# Altium integrated library Microchip PIC16 Part 1.IntLib: 1800 symbols (part 55 of 93)
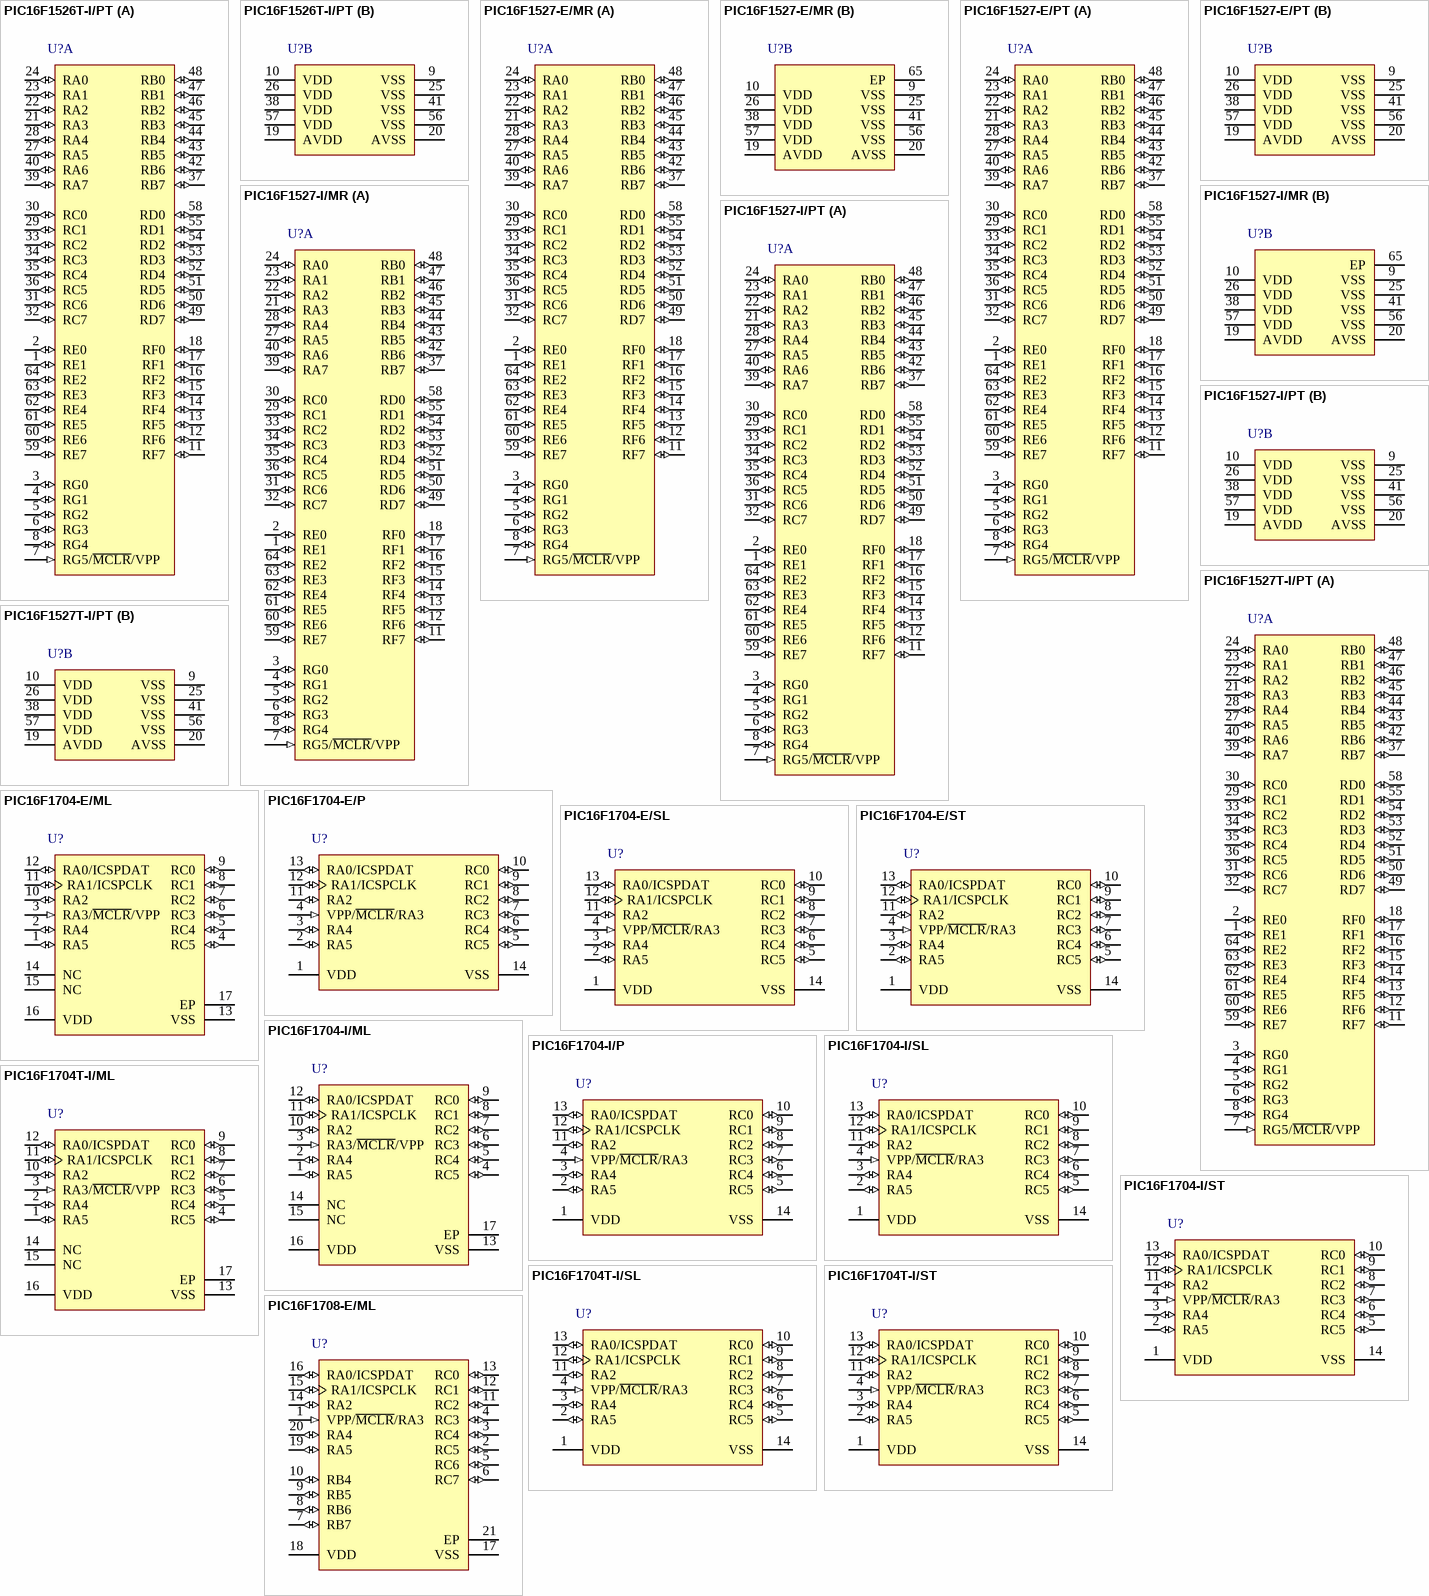
[diagram p153: symbols PIC16F1526T-I/PT to PIC16F1708-E/ML]

## PIC16F1704-I/ST
designator U?
8-Bit Advanced Analog Flash Microcontrollers, 4K (x14-Bit words) Program Memory, 512 Bytes SRAM, 12 I/O, Industrial Temperature, 14-Pin TSSOP (ST14), Tube; Manufacturer: Microchip; PartNumber: PIC16F1704-I/ST; VCC Range: 2.3 to 5.5 V; DatasheetVersion: Rev. B; PackageVersion: C04-087C, 12/2012; PackageReference: TSSOP-ST14; PackageDescription: 14-Lead Plastic Thin Shrink Small Outline, 5 x 4.4 mm Body, 0.65 mm Pitch; Supplier 1: Digi-Key; Supplier Part Number 1: PIC16F1704-I/ST-ND; Supplier 2: Newark; Supplier Part Number 2: 89W9317; Supplier 3: Mouser; Supplier Part Number 3: 579-PIC16F1704-I/ST; Packing: Tube; Mounting Technology: Surface Mount; ComponentLink1Description: Manufacturer URL; ComponentLink1URL: http://www.microchip.com/; ComponentLink2Description: Datasheet; ComponentLink2URL: http://ww1.microchip.com/downloads/en/DeviceDoc/40001715B.pdf; ComponentLink3Description: Package Specification; ComponentLink3URL: http://www.microchip.com/stellent/groups/techpub_sg/documents/packagingspec/en012702.pdf
footprint MCHP-TSSOP-ST14_N (SOP, 14-Leads, Body 5x4.4mm, Pitch 0.65mm, IPC Medium Density)
footprint MCHP-TSSOP-ST14_L (SOP, 14-Leads, Body 5x4.4mm, Pitch 0.65mm, IPC High Density)
footprint MCHP-TSSOP-ST14_M (SOP, 14-Leads, Body 5x4.4mm, Pitch 0.65mm, IPC Low Density)
pins: 1 VDD (power) "Positive supply.", 2 RA5 (io), 3 RA4 (io), 4 VPP/~{MCLR}/RA3 (in), 5 RC5 (io), 6 RC4 (io), 7 RC3 (io), 8 RC2 (io), 9 RC1 (io), 10 RC0 (io), 11 RA2 (io), 12 RA1/ICSPCLK (io), 13 RA0/ICSPDAT (io), 14 VSS (power) "Ground reference."

## PIC16F1704T-I/ML
designator U?
8-Bit Advanced Analog Flash Microcontrollers, 4K (x14-Bit words) Program Memory, 512 Bytes SRAM, 12 I/O, Industrial Temperature, 16-Pin QFN (ML16), Tape and Reel; Manufacturer: Microchip; PartNumber: PIC16F1704T-I/ML; VCC Range: 2.3 to 5.5 V; DatasheetVersion: Rev. B; PackageVersion: C04-127B, 04/2013; PackageReference: QFN-ML16; PackageDescription: 16-Lead Plastic Quad Flat No Lead Package, Body 4 x 4 mm, Pitch 0.65 mm; Supplier 1: Digi-Key; Supplier Part Number 1: PIC16F1704T-I/ML-ND; Supplier 2: Newark; Supplier Part Number 2: 89W9318; Supplier 3: Mouser; Supplier Part Number 3: 579-PIC16F1704T-I/ML; Packing: Tape and Reel; Mounting Technology: Surface Mount; ComponentLink1Description: Manufacturer URL; ComponentLink1URL: http://www.microchip.com/; ComponentLink2Description: Datasheet; ComponentLink2URL: http://ww1.microchip.com/downloads/en/DeviceDoc/40001715B.pdf; ComponentLink3Description: Package Specification; ComponentLink3URL: http://www.microchip.com/stellent/groups/techpub_sg/documents/packagingspec/en012702.pdf
footprint MCHP-QFN-ML16_N (QFN, 16-Leads, Body 4x4mm, Pitch 0.65mm, Thermal Pad 2.65x2.65mm, IPC Medium Density)
footprint MCHP-QFN-ML16_L (QFN, 16-Leads, Body 4x4mm, Pitch 0.65mm, Thermal Pad 2.65x2.65mm, IPC High Density)
footprint MCHP-QFN-ML16_M (QFN, 16-Leads, Body 4x4mm, Pitch 0.65mm, Thermal Pad 2.65x2.65mm, IPC Low Density)
pins: 1 RA5 (io), 2 RA4 (io), 3 RA3/~{MCLR}/VPP (in), 4 RC5 (io), 5 RC4 (io), 6 RC3 (io), 7 RC2 (io), 8 RC1 (io), 9 RC0 (io), 10 RA2 (io), 11 RA1/ICSPCLK (io), 12 RA0/ICSPDAT (io), 13 VSS (power) "Ground reference.", 14 NC, 15 NC, 16 VDD (power) "Positive supply.", 17 EP

## PIC16F1704T-I/SL
designator U?
8-Bit Advanced Analog Flash Microcontrollers, 4K (x14-Bit words) Program Memory, 512 Bytes SRAM, 12 I/O, Industrial Temperature, 14-Pin SOIC (SL14), Tape and Reel; Manufacturer: Microchip; PartNumber: PIC16F1704T-I/SL; VCC Range: 2.3 to 5.5 V; DatasheetVersion: Rev. B; PackageVersion: C04-065C, 12/2012; PackageReference: SOIC-SL14; PackageDescription: 14-Lead Plastic Small Outline, 8.65 x 3.9 mm Body, 1.27 mm Pitch; Supplier 1: Digi-Key; Supplier Part Number 1: PIC16F1704T-I/SL-ND; Supplier 2: Newark; Supplier Part Number 2: 89W9319; Supplier 3: Mouser; Supplier Part Number 3: 579-PIC16F1704T-I/SL; Packing: Tape and Reel; Mounting Technology: Surface Mount; ComponentLink1Description: Manufacturer URL; ComponentLink1URL: http://www.microchip.com/; ComponentLink2Description: Datasheet; ComponentLink2URL: http://ww1.microchip.com/downloads/en/DeviceDoc/40001715B.pdf; ComponentLink3Description: Package Specification; ComponentLink3URL: http://www.microchip.com/stellent/groups/techpub_sg/documents/packagingspec/en012702.pdf
footprint MCHP-SOIC-SL14_N (SOIC, 14-Leads, Body 8.65x3.9mm, Pitch 1.27mm, IPC Medium Density)
footprint MCHP-SOIC-SL14_L (SOIC, 14-Leads, Body 8.65x3.9mm, Pitch 1.27mm, IPC High Density)
footprint MCHP-SOIC-SL14_M (SOIC, 14-Leads, Body 8.65x3.9mm, Pitch 1.27mm, IPC Low Density)
pins: 1 VDD (power) "Positive supply.", 2 RA5 (io), 3 RA4 (io), 4 VPP/~{MCLR}/RA3 (in), 5 RC5 (io), 6 RC4 (io), 7 RC3 (io), 8 RC2 (io), 9 RC1 (io), 10 RC0 (io), 11 RA2 (io), 12 RA1/ICSPCLK (io), 13 RA0/ICSPDAT (io), 14 VSS (power) "Ground reference."

## PIC16F1704T-I/ST
designator U?
8-Bit Advanced Analog Flash Microcontrollers, 4K (x14-Bit words) Program Memory, 512 Bytes SRAM, 12 I/O, Industrial Temperature, 14-Pin TSSOP (ST14), Tape and Reel; Manufacturer: Microchip; PartNumber: PIC16F1704T-I/ST; VCC Range: 2.3 to 5.5 V; DatasheetVersion: Rev. B; PackageVersion: C04-087C, 12/2012; PackageReference: TSSOP-ST14; PackageDescription: 14-Lead Plastic Thin Shrink Small Outline, 5 x 4.4 mm Body, 0.65 mm Pitch; Supplier 1: Digi-Key; Supplier Part Number 1: PIC16F1704T-I/ST-ND; Supplier 2: Newark; Supplier Part Number 2: 89W9320; Supplier 3: Mouser; Supplier Part Number 3: 579-PIC16F1704T-I/ST; Packing: Tape and Reel; Mounting Technology: Surface Mount; ComponentLink1Description: Manufacturer URL; ComponentLink1URL: http://www.microchip.com/; ComponentLink2Description: Datasheet; ComponentLink2URL: http://ww1.microchip.com/downloads/en/DeviceDoc/40001715B.pdf; ComponentLink3Description: Package Specification; ComponentLink3URL: http://www.microchip.com/stellent/groups/techpub_sg/documents/packagingspec/en012702.pdf
footprint MCHP-TSSOP-ST14_N (SOP, 14-Leads, Body 5x4.4mm, Pitch 0.65mm, IPC Medium Density)
footprint MCHP-TSSOP-ST14_L (SOP, 14-Leads, Body 5x4.4mm, Pitch 0.65mm, IPC High Density)
footprint MCHP-TSSOP-ST14_M (SOP, 14-Leads, Body 5x4.4mm, Pitch 0.65mm, IPC Low Density)
pins: 1 VDD (power) "Positive supply.", 2 RA5 (io), 3 RA4 (io), 4 VPP/~{MCLR}/RA3 (in), 5 RC5 (io), 6 RC4 (io), 7 RC3 (io), 8 RC2 (io), 9 RC1 (io), 10 RC0 (io), 11 RA2 (io), 12 RA1/ICSPCLK (io), 13 RA0/ICSPDAT (io), 14 VSS (power) "Ground reference."

## PIC16F1708-E/ML
designator U?
8-Bit Advanced Analog Flash Microcontrollers, 4K (x14-Bit words) Program Memory, 512 Bytes SRAM, 18 I/O, Extended Temperature, 20-Pin QFN (ML20), Tube; Manufacturer: Microchip; PartNumber: PIC16F1708-E/ML; VCC Range: 2.3 to 5.5 V; DatasheetVersion: Rev. B; PackageVersion: C04-126B, 12/2012; PackageReference: QFN-ML20; PackageDescription: 20-Lead Plastic Quad Flat, No Lead Package, 4 x 4 mm Body, 0.5 mm Pitch; Supplier 1: Digi-Key; Supplier Part Number 1: PIC16F1708-E/ML-ND; Supplier 2: Newark; Supplier Part Number 2: 89W9321; Supplier 3: Mouser; Supplier Part Number 3: 579-PIC16F1708-E/ML; Packing: Tube; Mounting Technology: Surface Mount; ComponentLink1Description: Manufacturer URL; ComponentLink1URL: http://www.microchip.com/; ComponentLink2Description: Datasheet; ComponentLink2URL: http://ww1.microchip.com/downloads/en/DeviceDoc/40001715B.pdf; ComponentLink3Description: Package Specification; ComponentLink3URL: http://www.microchip.com/stellent/groups/techpub_sg/documents/packagingspec/en012702.pdf
footprint MCHP-QFN-ML20_N (QFN, 20-Leads, Body 4x4mm, Pitch 0.5mm, Thermal Pad 2.7x2.7mm, IPC Medium Density)
footprint MCHP-QFN-ML20_L (QFN, 20-Leads, Body 4x4mm, Pitch 0.5mm, Thermal Pad 2.7x2.7mm, IPC High Density)
footprint MCHP-QFN-ML20_M (QFN, 20-Leads, Body 4x4mm, Pitch 0.5mm, Thermal Pad 2.7x2.7mm, IPC Low Density)
pins: 1 VPP/~{MCLR}/RA3 (in), 2 RC5 (io), 3 RC4 (io), 4 RC3 (io), 5 RC6 (io), 6 RC7 (io), 7 RB7 (io), 8 RB6 (io), 9 RB5 (io), 10 RB4 (io), 11 RC2 (io), 12 RC1 (io), 13 RC0 (io), 14 RA2 (io), 15 RA1/ICSPCLK (io), 16 RA0/ICSPDAT (io), 17 VSS (power) "Ground reference.", 18 VDD (power) "Positive supply.", 19 RA5 (io), 20 RA4 (io), 21 EP

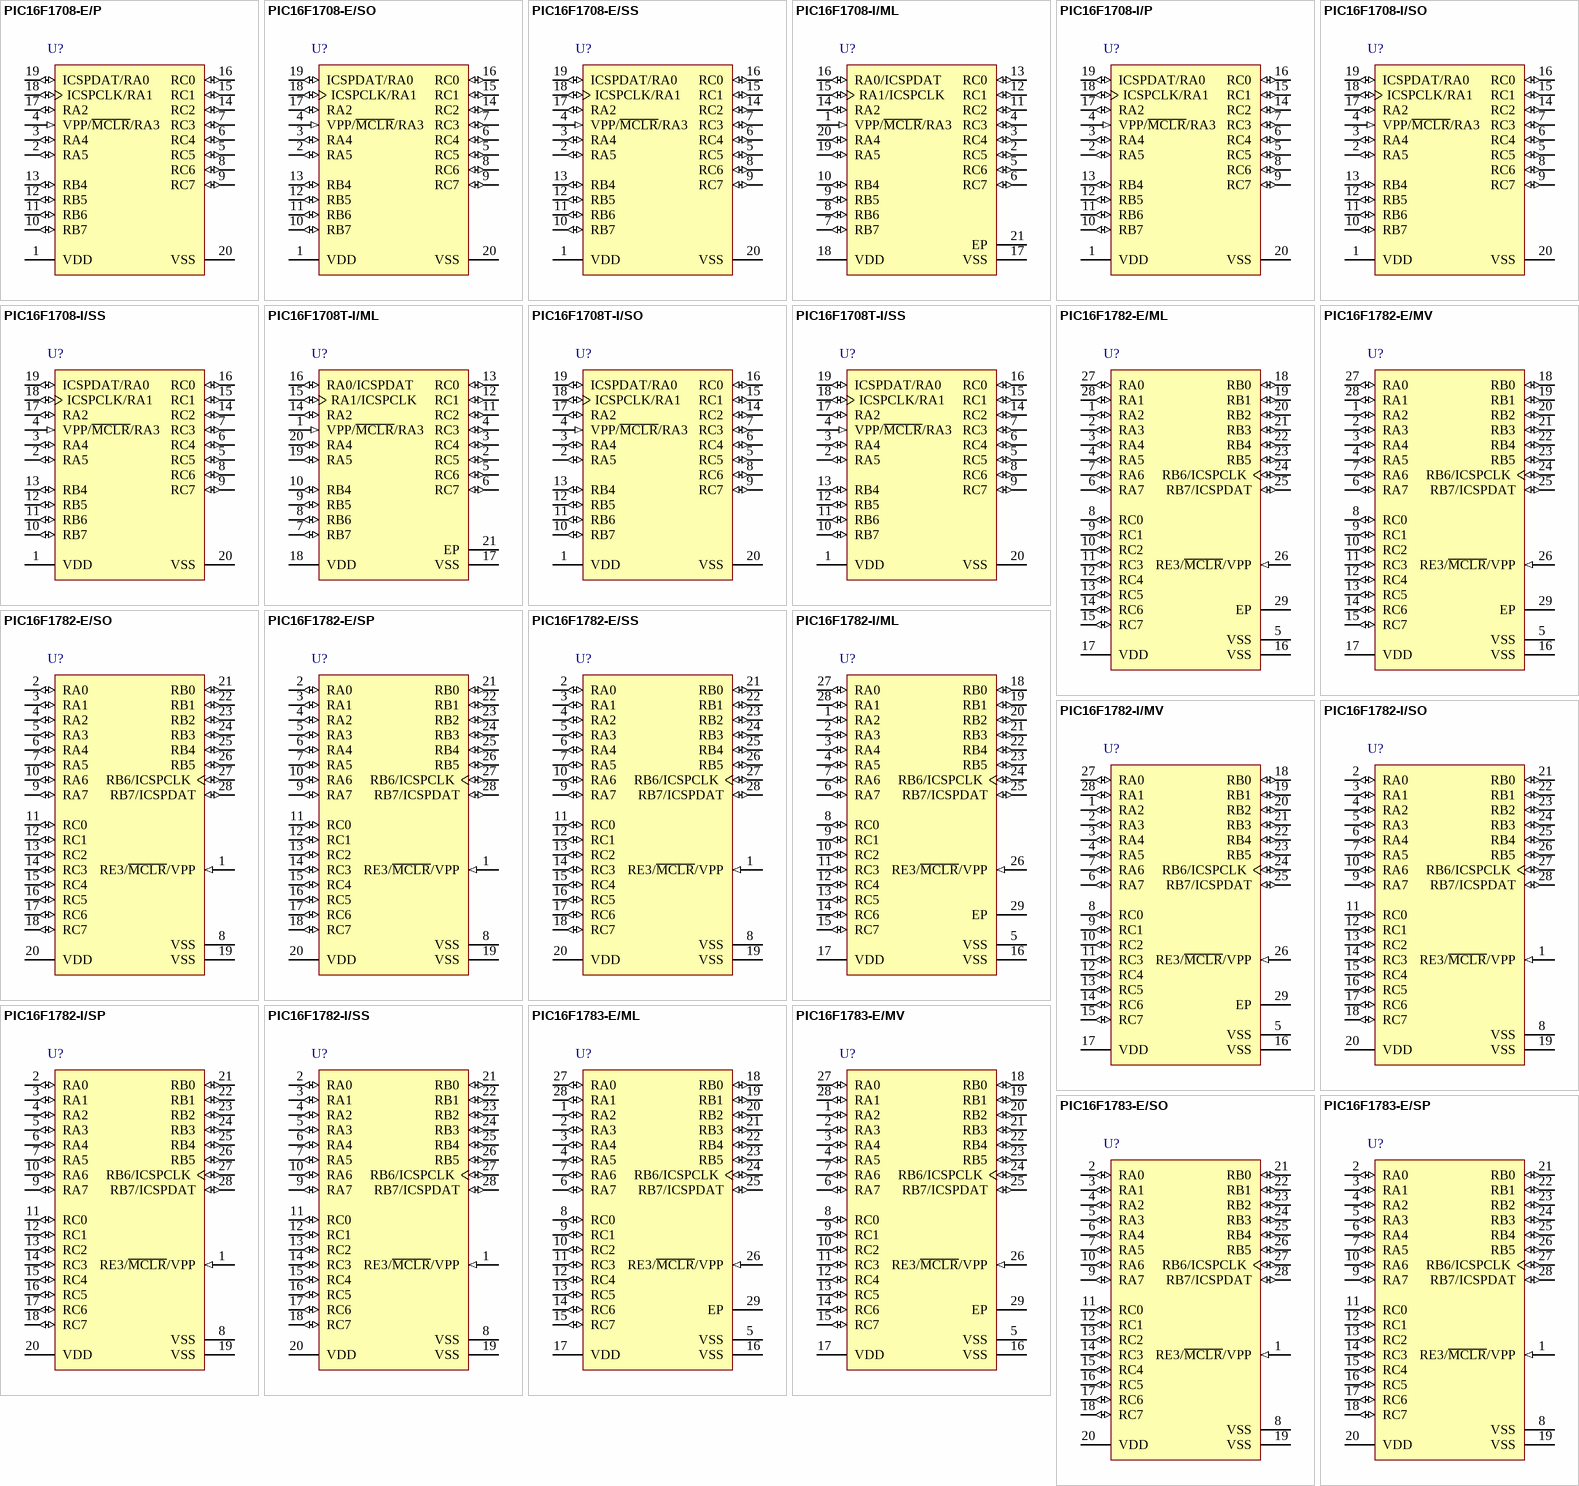
[diagram p55: symbols PIC16F1708-E/P to PIC16F1783-E/SP]

## PIC16F1708-E/P
designator U?
8-Bit Advanced Analog Flash Microcontrollers, 4K (x14-Bit words) Program Memory, 512 Bytes SRAM, 18 I/O, Extended Temperature, 20-Pin PDIP (P20), Tube; Manufacturer: Microchip; PartNumber: PIC16F1708-E/P; VCC Range: 2.3 to 5.5 V; DatasheetVersion: Rev. B; PackageVersion: C04-019B, 12/2012; PackageReference: PDIP-P20; PackageDescription: 20-Lead Plastic Dual In-Line, Row Spacing 7.62 mm, 25.91 x 6.6 mm Body, 2.54 mm Pitch; Supplier 1: Digi-Key; Supplier Part Number 1: PIC16F1708-E/P-ND; Supplier 2: Newark; Supplier Part Number 2: 89W9322; Supplier 3: Mouser; Supplier Part Number 3: 579-PIC16F1708-E/P; Packing: Tube; Mounting Technology: Through Hole; ComponentLink1Description: Manufacturer URL; ComponentLink1URL: http://www.microchip.com/; ComponentLink2Description: Datasheet; ComponentLink2URL: http://ww1.microchip.com/downloads/en/DeviceDoc/40001715B.pdf; ComponentLink3Description: Package Specification; ComponentLink3URL: http://www.microchip.com/stellent/groups/techpub_sg/documents/packagingspec/en012702.pdf
footprint MCHP-PDIP-P20 (DIP, 20-Leads, Body 25.91x6.6mm, Pitch 2.54mm)
pins: 1 VDD (power) "Positive supply.", 2 RA5 (io), 3 RA4 (io), 4 VPP/~{MCLR}/RA3 (in), 5 RC5 (io), 6 RC4 (io), 7 RC3 (io), 8 RC6 (io), 9 RC7 (io), 10 RB7 (io), 11 RB6 (io), 12 RB5 (io), 13 RB4 (io), 14 RC2 (io), 15 RC1 (io), 16 RC0 (io), 17 RA2 (io), 18 ICSPCLK/RA1 (io), 19 ICSPDAT/RA0 (io), 20 VSS (power) "Ground reference."

## PIC16F1708-E/SO
designator U?
8-Bit Advanced Analog Flash Microcontrollers, 4K (x14-Bit words) Program Memory, 512 Bytes SRAM, 18 I/O, Extended Temperature, 20-Pin SOIC (SO20), Tube; Manufacturer: Microchip; PartNumber: PIC16F1708-E/SO; VCC Range: 2.3 to 5.5 V; DatasheetVersion: Rev. B; PackageVersion: C04-094C, 12/2012; PackageReference: SOIC-SO20; PackageDescription: 20-Lead Plastic Small Outline, 7.5 x 12.8 mm Body, 1.27 mm Pitch; Supplier 1: Digi-Key; Supplier Part Number 1: PIC16F1708-E/SO-ND; Supplier 2: Newark; Supplier Part Number 2: 89W9323; Supplier 3: Mouser; Supplier Part Number 3: 579-PIC16F1708-E/SO; Packing: Tube; Mounting Technology: Surface Mount; ComponentLink1Description: Manufacturer URL; ComponentLink1URL: http://www.microchip.com/; ComponentLink2Description: Datasheet; ComponentLink2URL: http://ww1.microchip.com/downloads/en/DeviceDoc/40001715B.pdf; ComponentLink3Description: Package Specification; ComponentLink3URL: http://www.microchip.com/stellent/groups/techpub_sg/documents/packagingspec/en012702.pdf
footprint MCHP-SOIC-SO20_N (SOIC, 20-Leads, Body 12.8x7.5mm, Pitch 1.27mm, IPC Medium Density)
footprint MCHP-SOIC-SO20_L (SOIC, 20-Leads, Body 12.8x7.5mm, Pitch 1.27mm, IPC High Density)
footprint MCHP-SOIC-SO20_M (SOIC, 20-Leads, Body 12.8x7.5mm, Pitch 1.27mm, IPC Low Density)
pins: 1 VDD (power) "Positive supply.", 2 RA5 (io), 3 RA4 (io), 4 VPP/~{MCLR}/RA3 (in), 5 RC5 (io), 6 RC4 (io), 7 RC3 (io), 8 RC6 (io), 9 RC7 (io), 10 RB7 (io), 11 RB6 (io), 12 RB5 (io), 13 RB4 (io), 14 RC2 (io), 15 RC1 (io), 16 RC0 (io), 17 RA2 (io), 18 ICSPCLK/RA1 (io), 19 ICSPDAT/RA0 (io), 20 VSS (power) "Ground reference."

## PIC16F1708-E/SS
designator U?
8-Bit Advanced Analog Flash Microcontrollers, 4K (x14-Bit words) Program Memory, 512 Bytes SRAM, 18 I/O, Extended Temperature, 20-Pin SSOP (SS20), Tube; Manufacturer: Microchip; PartNumber: PIC16F1708-E/SS; VCC Range: 2.3 to 5.5 V; DatasheetVersion: Rev. B; PackageVersion: C04-072B, 12/2012; PackageReference: SSOP-SS20; PackageDescription: 20-Lead Plastic Shrink Small Outline, 5.3 x 7.2 mm Body, 0.65 mm Pitch; Supplier 1: Digi-Key; Supplier Part Number 1: PIC16F1708-E/SS-ND; Supplier 2: Newark; Supplier Part Number 2: 89W9324; Supplier 3: Mouser; Supplier Part Number 3: 579-PIC16F1708-E/SS; Packing: Tube; Mounting Technology: Surface Mount; ComponentLink1Description: Manufacturer URL; ComponentLink1URL: http://www.microchip.com/; ComponentLink2Description: Datasheet; ComponentLink2URL: http://ww1.microchip.com/downloads/en/DeviceDoc/40001715B.pdf; ComponentLink3Description: Package Specification; ComponentLink3URL: http://www.microchip.com/stellent/groups/techpub_sg/documents/packagingspec/en012702.pdf
footprint MCHP-SSOP-SS20_N (SOP, 20-Leads, Body 7.2x5.3mm, Pitch 0.65mm, IPC Medium Density)
footprint MCHP-SSOP-SS20_L (SOP, 20-Leads, Body 7.2x5.3mm, Pitch 0.65mm, IPC High Density)
footprint MCHP-SSOP-SS20_M (SOP, 20-Leads, Body 7.2x5.3mm, Pitch 0.65mm, IPC Low Density)
pins: 1 VDD (power) "Positive supply.", 2 RA5 (io), 3 RA4 (io), 4 VPP/~{MCLR}/RA3 (in), 5 RC5 (io), 6 RC4 (io), 7 RC3 (io), 8 RC6 (io), 9 RC7 (io), 10 RB7 (io), 11 RB6 (io), 12 RB5 (io), 13 RB4 (io), 14 RC2 (io), 15 RC1 (io), 16 RC0 (io), 17 RA2 (io), 18 ICSPCLK/RA1 (io), 19 ICSPDAT/RA0 (io), 20 VSS (power) "Ground reference."

## PIC16F1708-I/ML
designator U?
8-Bit Advanced Analog Flash Microcontrollers, 4K (x14-Bit words) Program Memory, 512 Bytes SRAM, 18 I/O, Industrial Temperature, 20-Pin QFN (ML20), Tube; Manufacturer: Microchip; PartNumber: PIC16F1708-I/ML; VCC Range: 2.3 to 5.5 V; DatasheetVersion: Rev. B; PackageVersion: C04-126B, 12/2012; PackageReference: QFN-ML20; PackageDescription: 20-Lead Plastic Quad Flat, No Lead Package, 4 x 4 mm Body, 0.5 mm Pitch; Supplier 1: Digi-Key; Supplier Part Number 1: PIC16F1708-I/ML-ND; Supplier 2: Newark; Supplier Part Number 2: 89W9325; Supplier 3: Mouser; Supplier Part Number 3: 579-PIC16F1708-I/ML; Packing: Tube; Mounting Technology: Surface Mount; ComponentLink1Description: Manufacturer URL; ComponentLink1URL: http://www.microchip.com/; ComponentLink2Description: Datasheet; ComponentLink2URL: http://ww1.microchip.com/downloads/en/DeviceDoc/40001715B.pdf; ComponentLink3Description: Package Specification; ComponentLink3URL: http://www.microchip.com/stellent/groups/techpub_sg/documents/packagingspec/en012702.pdf
footprint MCHP-QFN-ML20_N (QFN, 20-Leads, Body 4x4mm, Pitch 0.5mm, Thermal Pad 2.7x2.7mm, IPC Medium Density)
footprint MCHP-QFN-ML20_L (QFN, 20-Leads, Body 4x4mm, Pitch 0.5mm, Thermal Pad 2.7x2.7mm, IPC High Density)
footprint MCHP-QFN-ML20_M (QFN, 20-Leads, Body 4x4mm, Pitch 0.5mm, Thermal Pad 2.7x2.7mm, IPC Low Density)
pins: 1 VPP/~{MCLR}/RA3 (in), 2 RC5 (io), 3 RC4 (io), 4 RC3 (io), 5 RC6 (io), 6 RC7 (io), 7 RB7 (io), 8 RB6 (io), 9 RB5 (io), 10 RB4 (io), 11 RC2 (io), 12 RC1 (io), 13 RC0 (io), 14 RA2 (io), 15 RA1/ICSPCLK (io), 16 RA0/ICSPDAT (io), 17 VSS (power) "Ground reference.", 18 VDD (power) "Positive supply.", 19 RA5 (io), 20 RA4 (io), 21 EP

## PIC16F1708-I/P
designator U?
8-Bit Advanced Analog Flash Microcontrollers, 4K (x14-Bit words) Program Memory, 512 Bytes SRAM, 18 I/O, Industrial Temperature, 20-Pin PDIP (P20), Tube; Manufacturer: Microchip; PartNumber: PIC16F1708-I/P; VCC Range: 2.3 to 5.5 V; DatasheetVersion: Rev. B; PackageVersion: C04-019B, 12/2012; PackageReference: PDIP-P20; PackageDescription: 20-Lead Plastic Dual In-Line, Row Spacing 7.62 mm, 25.91 x 6.6 mm Body, 2.54 mm Pitch; Supplier 1: Digi-Key; Supplier Part Number 1: PIC16F1708-I/P-ND; Supplier 2: Newark; Supplier Part Number 2: 89W9326; Supplier 3: Mouser; Supplier Part Number 3: 579-PIC16F1708-I/P; Packing: Tube; Mounting Technology: Through Hole; ComponentLink1Description: Manufacturer URL; ComponentLink1URL: http://www.microchip.com/; ComponentLink2Description: Datasheet; ComponentLink2URL: http://ww1.microchip.com/downloads/en/DeviceDoc/40001715B.pdf; ComponentLink3Description: Package Specification; ComponentLink3URL: http://www.microchip.com/stellent/groups/techpub_sg/documents/packagingspec/en012702.pdf
footprint MCHP-PDIP-P20 (DIP, 20-Leads, Body 25.91x6.6mm, Pitch 2.54mm)
pins: 1 VDD (power) "Positive supply.", 2 RA5 (io), 3 RA4 (io), 4 VPP/~{MCLR}/RA3 (in), 5 RC5 (io), 6 RC4 (io), 7 RC3 (io), 8 RC6 (io), 9 RC7 (io), 10 RB7 (io), 11 RB6 (io), 12 RB5 (io), 13 RB4 (io), 14 RC2 (io), 15 RC1 (io), 16 RC0 (io), 17 RA2 (io), 18 ICSPCLK/RA1 (io), 19 ICSPDAT/RA0 (io), 20 VSS (power) "Ground reference."

## PIC16F1708-I/SO
designator U?
8-Bit Advanced Analog Flash Microcontrollers, 4K (x14-Bit words) Program Memory, 512 Bytes SRAM, 18 I/O, Industrial Temperature, 20-Pin SOIC (SO20), Tube; Manufacturer: Microchip; PartNumber: PIC16F1708-I/SO; VCC Range: 2.3 to 5.5 V; DatasheetVersion: Rev. B; PackageVersion: C04-094C, 12/2012; PackageReference: SOIC-SO20; PackageDescription: 20-Lead Plastic Small Outline, 7.5 x 12.8 mm Body, 1.27 mm Pitch; Supplier 1: Digi-Key; Supplier Part Number 1: PIC16F1708-I/SO-ND; Supplier 2: Newark; Supplier Part Number 2: 89W9327; Supplier 3: Mouser; Supplier Part Number 3: 579-PIC16F1708-I/SO; Packing: Tube; Mounting Technology: Surface Mount; ComponentLink1Description: Manufacturer URL; ComponentLink1URL: http://www.microchip.com/; ComponentLink2Description: Datasheet; ComponentLink2URL: http://ww1.microchip.com/downloads/en/DeviceDoc/40001715B.pdf; ComponentLink3Description: Package Specification; ComponentLink3URL: http://www.microchip.com/stellent/groups/techpub_sg/documents/packagingspec/en012702.pdf
footprint MCHP-SOIC-SO20_N (SOIC, 20-Leads, Body 12.8x7.5mm, Pitch 1.27mm, IPC Medium Density)
footprint MCHP-SOIC-SO20_L (SOIC, 20-Leads, Body 12.8x7.5mm, Pitch 1.27mm, IPC High Density)
footprint MCHP-SOIC-SO20_M (SOIC, 20-Leads, Body 12.8x7.5mm, Pitch 1.27mm, IPC Low Density)
pins: 1 VDD (power) "Positive supply.", 2 RA5 (io), 3 RA4 (io), 4 VPP/~{MCLR}/RA3 (in), 5 RC5 (io), 6 RC4 (io), 7 RC3 (io), 8 RC6 (io), 9 RC7 (io), 10 RB7 (io), 11 RB6 (io), 12 RB5 (io), 13 RB4 (io), 14 RC2 (io), 15 RC1 (io), 16 RC0 (io), 17 RA2 (io), 18 ICSPCLK/RA1 (io), 19 ICSPDAT/RA0 (io), 20 VSS (power) "Ground reference."

## PIC16F1708-I/SS
designator U?
8-Bit Advanced Analog Flash Microcontrollers, 4K (x14-Bit words) Program Memory, 512 Bytes SRAM, 18 I/O, Industrial Temperature, 20-Pin SSOP (SS20), Tube; Manufacturer: Microchip; PartNumber: PIC16F1708-I/SS; VCC Range: 2.3 to 5.5 V; DatasheetVersion: Rev. B; PackageVersion: C04-072B, 12/2012; PackageReference: SSOP-SS20; PackageDescription: 20-Lead Plastic Shrink Small Outline, 5.3 x 7.2 mm Body, 0.65 mm Pitch; Supplier 1: Digi-Key; Supplier Part Number 1: PIC16F1708-I/SS-ND; Supplier 2: Newark; Supplier Part Number 2: 89W9328; Supplier 3: Mouser; Supplier Part Number 3: 579-PIC16F1708-I/SS; Packing: Tube; Mounting Technology: Surface Mount; ComponentLink1Description: Manufacturer URL; ComponentLink1URL: http://www.microchip.com/; ComponentLink2Description: Datasheet; ComponentLink2URL: http://ww1.microchip.com/downloads/en/DeviceDoc/40001715B.pdf; ComponentLink3Description: Package Specification; ComponentLink3URL: http://www.microchip.com/stellent/groups/techpub_sg/documents/packagingspec/en012702.pdf
footprint MCHP-SSOP-SS20_N (SOP, 20-Leads, Body 7.2x5.3mm, Pitch 0.65mm, IPC Medium Density)
footprint MCHP-SSOP-SS20_L (SOP, 20-Leads, Body 7.2x5.3mm, Pitch 0.65mm, IPC High Density)
footprint MCHP-SSOP-SS20_M (SOP, 20-Leads, Body 7.2x5.3mm, Pitch 0.65mm, IPC Low Density)
pins: 1 VDD (power) "Positive supply.", 2 RA5 (io), 3 RA4 (io), 4 VPP/~{MCLR}/RA3 (in), 5 RC5 (io), 6 RC4 (io), 7 RC3 (io), 8 RC6 (io), 9 RC7 (io), 10 RB7 (io), 11 RB6 (io), 12 RB5 (io), 13 RB4 (io), 14 RC2 (io), 15 RC1 (io), 16 RC0 (io), 17 RA2 (io), 18 ICSPCLK/RA1 (io), 19 ICSPDAT/RA0 (io), 20 VSS (power) "Ground reference."

## PIC16F1708T-I/ML
designator U?
8-Bit Advanced Analog Flash Microcontrollers, 4K (x14-Bit words) Program Memory, 512 Bytes SRAM, 18 I/O, Industrial Temperature, 20-Pin QFN (ML20), Tape and Reel; Manufacturer: Microchip; PartNumber: PIC16F1708T-I/ML; VCC Range: 2.3 to 5.5 V; DatasheetVersion: Rev. B; PackageVersion: C04-126B, 12/2012; PackageReference: QFN-ML20; PackageDescription: 20-Lead Plastic Quad Flat, No Lead Package, 4 x 4 mm Body, 0.5 mm Pitch; Supplier 1: Digi-Key; Supplier Part Number 1: PIC16F1708T-I/ML-ND; Supplier 2: Newark; Supplier Part Number 2: 89W9329; Supplier 3: Mouser; Supplier Part Number 3: 579-PIC16F1708T-I/ML; Packing: Tape and Reel; Mounting Technology: Surface Mount; ComponentLink1Description: Manufacturer URL; ComponentLink1URL: http://www.microchip.com/; ComponentLink2Description: Datasheet; ComponentLink2URL: http://ww1.microchip.com/downloads/en/DeviceDoc/40001715B.pdf; ComponentLink3Description: Package Specification; ComponentLink3URL: http://www.microchip.com/stellent/groups/techpub_sg/documents/packagingspec/en012702.pdf
footprint MCHP-QFN-ML20_N (QFN, 20-Leads, Body 4x4mm, Pitch 0.5mm, Thermal Pad 2.7x2.7mm, IPC Medium Density)
footprint MCHP-QFN-ML20_L (QFN, 20-Leads, Body 4x4mm, Pitch 0.5mm, Thermal Pad 2.7x2.7mm, IPC High Density)
footprint MCHP-QFN-ML20_M (QFN, 20-Leads, Body 4x4mm, Pitch 0.5mm, Thermal Pad 2.7x2.7mm, IPC Low Density)
pins: 1 VPP/~{MCLR}/RA3 (in), 2 RC5 (io), 3 RC4 (io), 4 RC3 (io), 5 RC6 (io), 6 RC7 (io), 7 RB7 (io), 8 RB6 (io), 9 RB5 (io), 10 RB4 (io), 11 RC2 (io), 12 RC1 (io), 13 RC0 (io), 14 RA2 (io), 15 RA1/ICSPCLK (io), 16 RA0/ICSPDAT (io), 17 VSS (power) "Ground reference.", 18 VDD (power) "Positive supply.", 19 RA5 (io), 20 RA4 (io), 21 EP

## PIC16F1708T-I/SO
designator U?
8-Bit Advanced Analog Flash Microcontrollers, 4K (x14-Bit words) Program Memory, 512 Bytes SRAM, 18 I/O, Industrial Temperature, 20-Pin SOIC (SO20), Tape and Reel; Manufacturer: Microchip; PartNumber: PIC16F1708T-I/SO; VCC Range: 2.3 to 5.5 V; DatasheetVersion: Rev. B; PackageVersion: C04-094C, 12/2012; PackageReference: SOIC-SO20; PackageDescription: 20-Lead Plastic Small Outline, 7.5 x 12.8 mm Body, 1.27 mm Pitch; Supplier 1: Digi-Key; Supplier Part Number 1: PIC16F1708T-I/SO-ND; Supplier 2: Newark; Supplier Part Number 2: 89W9330; Supplier 3: Mouser; Supplier Part Number 3: 579-PIC16F1708T-I/SO; Packing: Tape and Reel; Mounting Technology: Surface Mount; ComponentLink1Description: Manufacturer URL; ComponentLink1URL: http://www.microchip.com/; ComponentLink2Description: Datasheet; ComponentLink2URL: http://ww1.microchip.com/downloads/en/DeviceDoc/40001715B.pdf; ComponentLink3Description: Package Specification; ComponentLink3URL: http://www.microchip.com/stellent/groups/techpub_sg/documents/packagingspec/en012702.pdf
footprint MCHP-SOIC-SO20_N (SOIC, 20-Leads, Body 12.8x7.5mm, Pitch 1.27mm, IPC Medium Density)
footprint MCHP-SOIC-SO20_L (SOIC, 20-Leads, Body 12.8x7.5mm, Pitch 1.27mm, IPC High Density)
footprint MCHP-SOIC-SO20_M (SOIC, 20-Leads, Body 12.8x7.5mm, Pitch 1.27mm, IPC Low Density)
pins: 1 VDD (power) "Positive supply.", 2 RA5 (io), 3 RA4 (io), 4 VPP/~{MCLR}/RA3 (in), 5 RC5 (io), 6 RC4 (io), 7 RC3 (io), 8 RC6 (io), 9 RC7 (io), 10 RB7 (io), 11 RB6 (io), 12 RB5 (io), 13 RB4 (io), 14 RC2 (io), 15 RC1 (io), 16 RC0 (io), 17 RA2 (io), 18 ICSPCLK/RA1 (io), 19 ICSPDAT/RA0 (io), 20 VSS (power) "Ground reference."

## PIC16F1708T-I/SS
designator U?
8-Bit Advanced Analog Flash Microcontrollers, 4K (x14-Bit words) Program Memory, 512 Bytes SRAM, 18 I/O, Industrial Temperature, 20-Pin SSOP (SS20), Tape and Reel; Manufacturer: Microchip; PartNumber: PIC16F1708T-I/SS; VCC Range: 2.3 to 5.5 V; DatasheetVersion: Rev. B; PackageVersion: C04-072B, 12/2012; PackageReference: SSOP-SS20; PackageDescription: 20-Lead Plastic Shrink Small Outline, 5.3 x 7.2 mm Body, 0.65 mm Pitch; Supplier 1: Digi-Key; Supplier Part Number 1: PIC16F1708T-I/SS-ND; Supplier 2: Newark; Supplier Part Number 2: 89W9331; Supplier 3: Mouser; Supplier Part Number 3: 579-PIC16F1708T-I/SS; Packing: Tape and Reel; Mounting Technology: Surface Mount; ComponentLink1Description: Manufacturer URL; ComponentLink1URL: http://www.microchip.com/; ComponentLink2Description: Datasheet; ComponentLink2URL: http://ww1.microchip.com/downloads/en/DeviceDoc/40001715B.pdf; ComponentLink3Description: Package Specification; ComponentLink3URL: http://www.microchip.com/stellent/groups/techpub_sg/documents/packagingspec/en012702.pdf
footprint MCHP-SSOP-SS20_N (SOP, 20-Leads, Body 7.2x5.3mm, Pitch 0.65mm, IPC Medium Density)
footprint MCHP-SSOP-SS20_L (SOP, 20-Leads, Body 7.2x5.3mm, Pitch 0.65mm, IPC High Density)
footprint MCHP-SSOP-SS20_M (SOP, 20-Leads, Body 7.2x5.3mm, Pitch 0.65mm, IPC Low Density)
pins: 1 VDD (power) "Positive supply.", 2 RA5 (io), 3 RA4 (io), 4 VPP/~{MCLR}/RA3 (in), 5 RC5 (io), 6 RC4 (io), 7 RC3 (io), 8 RC6 (io), 9 RC7 (io), 10 RB7 (io), 11 RB6 (io), 12 RB5 (io), 13 RB4 (io), 14 RC2 (io), 15 RC1 (io), 16 RC0 (io), 17 RA2 (io), 18 ICSPCLK/RA1 (io), 19 ICSPDAT/RA0 (io), 20 VSS (power) "Ground reference."

## PIC16F1782-E/ML
designator U?
8-Bit Advanced Analog Flash Microcontroller, 32 MHz, 24 I/O, -40 to 125 degC, 28-pin QFN (ML28), Tube; Manufacturer: Microchip; PartNumber: PIC16F1782-E/ML; # of A/D Channels: 11; Digital Communication: 1 -A/E/USART, 1 -MSSP(SPI/I2C); EEPROM Data Memory (bytes): 256; I/O Pins: 24; Internal Oscillator: 32 MHz, 31 kHz; Max. CPU Speed MHz: 32; Operation Voltage Range: 2.3V - 5.5V; Program Memory KBytes: 3.5; Program Memory KWords: 2; Timers: 2 - 8-bit, 1 - 16-bit; DatasheetVersion: Rev. D; PackageVersion: C04-105C, 12/2012; PackageReference: QFN-ML28; PackageDescription: 28-Lead Plastic Quad Flat, 6 x 6 mm Body, 0.65 mm Pitch; Supplier 1: Digi-Key; Supplier Part Number 1: PIC16F1782-E/ML-ND; Supplier 2: Mouser; Supplier Part Number 2: 579-PIC16F1782-E/ML; Memory Type: Flash; Packing: TUBE; RAM: 256; RoHS: TRUE; Mounting Technology: Surface Mount; ComponentLink1Description: Datasheet; ComponentLink1URL: http://ww1.microchip.com/downloads/en/DeviceDoc/41579D.pdf; ComponentLink2Description: Package Specification; ComponentLink2URL: http://www.microchip.com/stellent/groups/techpub_sg/documents/packagingspec/en012702.pdf; ComponentLink3Description: URL Link1; ComponentLink3URL: Product URL:http://www.microchip.com/datasheet/PIC16F1782
footprint MCHP-QFN-ML28_N (QFN, 28-Leads, Body 6x6mm, Pitch 0.65mm, Thermal Pad 3.7x3.7mm, IPC Medium Density)
footprint MCHP-QFN-ML28_L (QFN, 28-Leads, Body 6x6mm, Pitch 0.65mm, Thermal Pad 3.7x3.7mm, IPC High Density)
footprint MCHP-QFN-ML28_M (QFN, 28-Leads, Body 6x6mm, Pitch 0.65mm, Thermal Pad 3.7x3.7mm, IPC Low Density)
pins: 1 RA2 (io), 2 RA3 (io), 3 RA4 (io), 4 RA5 (io), 5 VSS (power) "Ground reference.", 6 RA7 (io), 7 RA6 (io), 8 RC0 (io), 9 RC1 (io), 10 RC2 (io), 11 RC3 (io), 12 RC4 (io), 13 RC5 (io), 14 RC6 (io), 15 RC7 (io), 16 VSS (power) "Ground reference.", 17 VDD (power) "Positive supply.", 18 RB0 (io), 19 RB1 (io), 20 RB2 (io), 21 RB3 (io), 22 RB4 (io), 23 RB5 (io), 24 RB6/ICSPCLK (io), 25 RB7/ICSPDAT (io), 26 RE3/~{MCLR}/VPP (in), 27 RA0 (io), 28 RA1 (io), 29 EP

## PIC16F1782-E/MV
designator U?
8-Bit Advanced Analog Flash Microcontroller, 32 MHz, 24 I/O, -40 to 125 degC, 28-pin UQFN (MV28), Tube; Manufacturer: Microchip; PartNumber: PIC16F1782-E/MV; # of A/D Channels: 11; Digital Communication: 1 -A/E/USART, 1 -MSSP(SPI/I2C); EEPROM Data Memory (bytes): 256; I/O Pins: 24; Internal Oscillator: 32 MHz, 31 kHz; Max. CPU Speed MHz: 32; Operation Voltage Range: 2.3V - 5.5V; Program Memory KBytes: 3.5; Program Memory KWords: 2; Timers: 2 - 8-bit, 1 - 16-bit; DatasheetVersion: Rev. D; PackageVersion: C04-152A, 04/2013; PackageReference: UQFN-MV28; PackageDescription: 28-Lead Plastic Ultra Thin Quad Flat, Body 4 x 4 mm, Pitch 0.4 mm; Supplier 1: Digi-Key; Supplier Part Number 1: PIC16F1782-E/MV-ND; Supplier 2: Mouser; Supplier Part Number 2: 579-PIC16F1782-E/MV; Memory Type: Flash; Packing: TUBE; RAM: 256; RoHS: TRUE; Mounting Technology: Surface Mount; ComponentLink1Description: Datasheet; ComponentLink1URL: http://ww1.microchip.com/downloads/en/DeviceDoc/41579D.pdf; ComponentLink2Description: Package Specification; ComponentLink2URL: http://www.microchip.com/stellent/groups/techpub_sg/documents/packagingspec/en012702.pdf; ComponentLink3Description: URL Link1; ComponentLink3URL: Product URL:http://www.microchip.com/datasheet/PIC16F1782
footprint MCHP-UQFN-MV28_N (QFN, 28-Leads, Body 4x4mm, Pitch 0.4mm, Thermal Pad 2.65x2.65mm, IPC Medium Density)
footprint MCHP-UQFN-MV28_L (QFN, 28-Leads, Body 4x4mm, Pitch 0.4mm, Thermal Pad 2.65x2.65mm, IPC High Density)
footprint MCHP-UQFN-MV28_M (QFN, 28-Leads, Body 4x4mm, Pitch 0.4mm, Thermal Pad 2.65x2.65mm, IPC Low Density)
pins: 1 RA2 (io), 2 RA3 (io), 3 RA4 (io), 4 RA5 (io), 5 VSS (power) "Ground reference.", 6 RA7 (io), 7 RA6 (io), 8 RC0 (io), 9 RC1 (io), 10 RC2 (io), 11 RC3 (io), 12 RC4 (io), 13 RC5 (io), 14 RC6 (io), 15 RC7 (io), 16 VSS (power) "Ground reference.", 17 VDD (power) "Positive supply.", 18 RB0 (io), 19 RB1 (io), 20 RB2 (io), 21 RB3 (io), 22 RB4 (io), 23 RB5 (io), 24 RB6/ICSPCLK (io), 25 RB7/ICSPDAT (io), 26 RE3/~{MCLR}/VPP (in), 27 RA0 (io), 28 RA1 (io), 29 EP

## PIC16F1782-E/SO
designator U?
8-Bit Advanced Analog Flash Microcontroller, 32 MHz, 24 I/O, -40 to 125 degC, 28-pin SOIC (SO28), Tube; Manufacturer: Microchip; PartNumber: PIC16F1782-E/SO; # of A/D Channels: 11; Digital Communication: 1 -A/E/USART, 1 -MSSP(SPI/I2C); EEPROM Data Memory (bytes): 256; I/O Pins: 24; Internal Oscillator: 32 MHz, 31 kHz; Max. CPU Speed MHz: 32; Operation Voltage Range: 2.3V - 5.5V; Program Memory KBytes: 3.5; Program Memory KWords: 2; Timers: 2 - 8-bit, 1 - 16-bit; DatasheetVersion: Rev. D; PackageVersion: C04-052C, 12/2012; PackageReference: SOIC-SO28; PackageDescription: 28-Lead Plastic Small Outline, 17.9 x 7.5 mm Body, 1.27 mm Pitch; Supplier 1: Digi-Key; Supplier Part Number 1: PIC16F1782-E/SO-ND; Supplier 2: Newark; Supplier Part Number 2: 76T2319; Supplier 3: Mouser; Supplier Part Number 3: 579-PIC16F1782-E/SO; Memory Type: Flash; Packing: TUBE; RAM: 256; RoHS: TRUE; Mounting Technology: Surface Mount; ComponentLink1Description: Datasheet; ComponentLink1URL: http://ww1.microchip.com/downloads/en/DeviceDoc/41579D.pdf; ComponentLink2Description: Package Specification; ComponentLink2URL: http://www.microchip.com/stellent/groups/techpub_sg/documents/packagingspec/en012702.pdf; ComponentLink3Description: URL Link1; ComponentLink3URL: Product URL:http://www.microchip.com/datasheet/PIC16F1782
footprint MCHP-SOIC-SO28_N (SOIC, 28-Leads, Body 17.9x7.5mm, Pitch 1.27mm, IPC Medium Density)
footprint MCHP-SOIC-SO28_L (SOIC, 28-Leads, Body 17.9x7.5mm, Pitch 1.27mm, IPC High Density)
footprint MCHP-SOIC-SO28_M (SOIC, 28-Leads, Body 17.9x7.5mm, Pitch 1.27mm, IPC Low Density)
pins: 1 RE3/~{MCLR}/VPP (in), 2 RA0 (io), 3 RA1 (io), 4 RA2 (io), 5 RA3 (io), 6 RA4 (io), 7 RA5 (io), 8 VSS (power) "Ground reference.", 9 RA7 (io), 10 RA6 (io), 11 RC0 (io), 12 RC1 (io), 13 RC2 (io), 14 RC3 (io), 15 RC4 (io), 16 RC5 (io), 17 RC6 (io), 18 RC7 (io), 19 VSS (power) "Ground reference.", 20 VDD (power) "Positive supply.", 21 RB0 (io), 22 RB1 (io), 23 RB2 (io), 24 RB3 (io), 25 RB4 (io), 26 RB5 (io), 27 RB6/ICSPCLK (io), 28 RB7/ICSPDAT (io)

## PIC16F1782-E/SP
designator U?
8-Bit Advanced Analog Flash Microcontroller, 32 MHz, 24 I/O, -40 to 125 degC, 28-pin SPDIP (SP28), Tube; Manufacturer: Microchip; PartNumber: PIC16F1782-E/SP; # of A/D Channels: 11; Digital Communication: 1 -A/E/USART, 1 -MSSP(SPI/I2C); EEPROM Data Memory (bytes): 256; I/O Pins: 24; Internal Oscillator: 32 MHz, 31 kHz; Max. CPU Speed MHz: 32; Operation Voltage Range: 2.3V - 5.5V; Program Memory KBytes: 3.5; Program Memory KWords: 2; Timers: 2 - 8-bit, 1 - 16-bit; DatasheetVersion: Rev. D; PackageVersion: C04-070B, 12/2012; PackageReference: SPDIP-SP28; PackageDescription: 28-Lead Plastic Dual In-Line, 34.86 x 6.79 mm Body, 2.54 mm Pitch; Supplier 1: Digi-Key; Supplier Part Number 1: PIC16F1782-E/SP-ND; Supplier 2: Newark; Supplier Part Number 2: 76T2320; Supplier 3: Mouser; Supplier Part Number 3: 579-PIC16F1782-E/SP; Memory Type: Flash; Packing: TUBE; RAM: 256; RoHS: TRUE; Mounting Technology: Through Hole; ComponentLink1Description: Datasheet; ComponentLink1URL: http://ww1.microchip.com/downloads/en/DeviceDoc/41579D.pdf; ComponentLink2Description: Package Specification; ComponentLink2URL: http://www.microchip.com/stellent/groups/techpub_sg/documents/packagingspec/en012702.pdf; ComponentLink3Description: URL Link1; ComponentLink3URL: Product URL:http://www.microchip.com/datasheet/PIC16F1782
footprint MCHP-SPDIP-SP28 (DIP, 28-Leads, Body 34.86x6.79mm, Pitch 2.54mm)
pins: 1 RE3/~{MCLR}/VPP (in), 2 RA0 (io), 3 RA1 (io), 4 RA2 (io), 5 RA3 (io), 6 RA4 (io), 7 RA5 (io), 8 VSS (power) "Ground reference.", 9 RA7 (io), 10 RA6 (io), 11 RC0 (io), 12 RC1 (io), 13 RC2 (io), 14 RC3 (io), 15 RC4 (io), 16 RC5 (io), 17 RC6 (io), 18 RC7 (io), 19 VSS (power) "Ground reference.", 20 VDD (power) "Positive supply.", 21 RB0 (io), 22 RB1 (io), 23 RB2 (io), 24 RB3 (io), 25 RB4 (io), 26 RB5 (io), 27 RB6/ICSPCLK (io), 28 RB7/ICSPDAT (io)

## PIC16F1782-E/SS
designator U?
8-Bit Advanced Analog Flash Microcontroller, 32 MHz, 24 I/O, -40 to 125 degC, 28-pin SSOP (SS28), Tube; Manufacturer: Microchip; PartNumber: PIC16F1782-E/SS; # of A/D Channels: 11; Digital Communication: 1 -A/E/USART, 1 -MSSP(SPI/I2C); EEPROM Data Memory (bytes): 256; I/O Pins: 24; Internal Oscillator: 32 MHz, 31 kHz; Max. CPU Speed MHz: 32; Operation Voltage Range: 2.3V - 5.5V; Program Memory KBytes: 3.5; Program Memory KWords: 2; Timers: 2 - 8-bit, 1 - 16-bit; DatasheetVersion: Rev. D; PackageVersion: C04-073B, 12/2012; PackageReference: SSOP-SS28; PackageDescription: 28-Lead Plastic Shrink Small Outline, 10.2 x 5.3 mm Body, 0.65 mm Pitch; Supplier 1: Digi-Key; Supplier Part Number 1: PIC16F1782-E/SS-ND; Supplier 2: Newark; Supplier Part Number 2: 76T2321; Supplier 3: Mouser; Supplier Part Number 3: 579-PIC16F1782-E/SS; Memory Type: Flash; Packing: TUBE; RAM: 256; RoHS: TRUE; Mounting Technology: Surface Mount; ComponentLink1Description: Datasheet; ComponentLink1URL: http://ww1.microchip.com/downloads/en/DeviceDoc/41579D.pdf; ComponentLink2Description: Package Specification; ComponentLink2URL: http://www.microchip.com/stellent/groups/techpub_sg/documents/packagingspec/en012702.pdf; ComponentLink3Description: URL Link1; ComponentLink3URL: Product URL:http://www.microchip.com/datasheet/PIC16F1782
footprint MCHP-SSOP-SS28_N (SOP, 28-Leads, Body 10.2x5.3mm, Pitch 0.65mm, IPC Medium Density)
footprint MCHP-SSOP-SS28_L (SOP, 28-Leads, Body 10.2x5.3mm, Pitch 0.65mm, IPC High Density)
footprint MCHP-SSOP-SS28_M (SOP, 28-Leads, Body 10.2x5.3mm, Pitch 0.65mm, IPC Low Density)
pins: 1 RE3/~{MCLR}/VPP (in), 2 RA0 (io), 3 RA1 (io), 4 RA2 (io), 5 RA3 (io), 6 RA4 (io), 7 RA5 (io), 8 VSS (power) "Ground reference.", 9 RA7 (io), 10 RA6 (io), 11 RC0 (io), 12 RC1 (io), 13 RC2 (io), 14 RC3 (io), 15 RC4 (io), 16 RC5 (io), 17 RC6 (io), 18 RC7 (io), 19 VSS (power) "Ground reference.", 20 VDD (power) "Positive supply.", 21 RB0 (io), 22 RB1 (io), 23 RB2 (io), 24 RB3 (io), 25 RB4 (io), 26 RB5 (io), 27 RB6/ICSPCLK (io), 28 RB7/ICSPDAT (io)

## PIC16F1782-I/ML
designator U?
8-Bit Advanced Analog Flash Microcontroller, 32 MHz, 24 I/O, -40 to 85 degC, 28-pin QFN (ML28), Tube; Manufacturer: Microchip; PartNumber: PIC16F1782-I/ML; # of A/D Channels: 11; Digital Communication: 1 -A/E/USART, 1 -MSSP(SPI/I2C); EEPROM Data Memory (bytes): 256; I/O Pins: 24; Internal Oscillator: 32 MHz, 31 kHz; Max. CPU Speed MHz: 32; Operation Voltage Range: 2.3V - 5.5V; Program Memory KBytes: 3.5; Program Memory KWords: 2; Timers: 2 - 8-bit, 1 - 16-bit; DatasheetVersion: Rev. D; PackageVersion: C04-105C, 12/2012; PackageReference: QFN-ML28; PackageDescription: 28-Lead Plastic Quad Flat, 6 x 6 mm Body, 0.65 mm Pitch; Supplier 1: Digi-Key; Supplier Part Number 1: PIC16F1782-I/ML-ND; Supplier 2: Farnell; Supplier Part Number 2: 2097780; Supplier 3: Newark; Supplier Part Number 3: 76T2322; Supplier 4: Mouser; Supplier Part Number 4: 579-PIC16F1782-I/ML; Memory Type: Flash; Packing: TUBE; RAM: 256; RoHS: TRUE; Mounting Technology: Surface Mount; ComponentLink1Description: Datasheet; ComponentLink1URL: http://ww1.microchip.com/downloads/en/DeviceDoc/41579D.pdf; ComponentLink2Description: Package Specification; ComponentLink2URL: http://www.microchip.com/stellent/groups/techpub_sg/documents/packagingspec/en012702.pdf; ComponentLink3Description: URL Link1; ComponentLink3URL: Product URL:http://www.microchip.com/datasheet/PIC16F1782
footprint MCHP-QFN-ML28_N (QFN, 28-Leads, Body 6x6mm, Pitch 0.65mm, Thermal Pad 3.7x3.7mm, IPC Medium Density)
footprint MCHP-QFN-ML28_L (QFN, 28-Leads, Body 6x6mm, Pitch 0.65mm, Thermal Pad 3.7x3.7mm, IPC High Density)
footprint MCHP-QFN-ML28_M (QFN, 28-Leads, Body 6x6mm, Pitch 0.65mm, Thermal Pad 3.7x3.7mm, IPC Low Density)
pins: 1 RA2 (io), 2 RA3 (io), 3 RA4 (io), 4 RA5 (io), 5 VSS (power) "Ground reference.", 6 RA7 (io), 7 RA6 (io), 8 RC0 (io), 9 RC1 (io), 10 RC2 (io), 11 RC3 (io), 12 RC4 (io), 13 RC5 (io), 14 RC6 (io), 15 RC7 (io), 16 VSS (power) "Ground reference.", 17 VDD (power) "Positive supply.", 18 RB0 (io), 19 RB1 (io), 20 RB2 (io), 21 RB3 (io), 22 RB4 (io), 23 RB5 (io), 24 RB6/ICSPCLK (io), 25 RB7/ICSPDAT (io), 26 RE3/~{MCLR}/VPP (in), 27 RA0 (io), 28 RA1 (io), 29 EP

## PIC16F1782-I/MV
designator U?
8-Bit Advanced Analog Flash Microcontroller, 32 MHz, 24 I/O, -40 to 85 degC, 28-pin UQFN (MV28), Tube; Manufacturer: Microchip; PartNumber: PIC16F1782-I/MV; # of A/D Channels: 11; Digital Communication: 1 -A/E/USART, 1 -MSSP(SPI/I2C); EEPROM Data Memory (bytes): 256; I/O Pins: 24; Internal Oscillator: 32 MHz, 31 kHz; Max. CPU Speed MHz: 32; Operation Voltage Range: 2.3V - 5.5V; Program Memory KBytes: 3.5; Program Memory KWords: 2; Timers: 2 - 8-bit, 1 - 16-bit; DatasheetVersion: Rev. D; PackageVersion: C04-152A, 04/2013; PackageReference: UQFN-MV28; PackageDescription: 28-Lead Plastic Ultra Thin Quad Flat, Body 4 x 4 mm, Pitch 0.4 mm; Supplier 1: Digi-Key; Supplier Part Number 1: PIC16F1782-I/MV-ND; Supplier 2: Farnell; Supplier Part Number 2: 2097781; Supplier 3: Newark; Supplier Part Number 3: 76T2323; Supplier 4: Mouser; Supplier Part Number 4: 579-PIC16F1782-I/MV; Memory Type: Flash; Packing: TUBE; RAM: 256; RoHS: TRUE; Mounting Technology: Surface Mount; ComponentLink1Description: Datasheet; ComponentLink1URL: http://ww1.microchip.com/downloads/en/DeviceDoc/41579D.pdf; ComponentLink2Description: Package Specification; ComponentLink2URL: http://www.microchip.com/stellent/groups/techpub_sg/documents/packagingspec/en012702.pdf; ComponentLink3Description: URL Link1; ComponentLink3URL: Product URL:http://www.microchip.com/datasheet/PIC16F1782
footprint MCHP-UQFN-MV28_N (QFN, 28-Leads, Body 4x4mm, Pitch 0.4mm, Thermal Pad 2.65x2.65mm, IPC Medium Density)
footprint MCHP-UQFN-MV28_L (QFN, 28-Leads, Body 4x4mm, Pitch 0.4mm, Thermal Pad 2.65x2.65mm, IPC High Density)
footprint MCHP-UQFN-MV28_M (QFN, 28-Leads, Body 4x4mm, Pitch 0.4mm, Thermal Pad 2.65x2.65mm, IPC Low Density)
pins: 1 RA2 (io), 2 RA3 (io), 3 RA4 (io), 4 RA5 (io), 5 VSS (power) "Ground reference.", 6 RA7 (io), 7 RA6 (io), 8 RC0 (io), 9 RC1 (io), 10 RC2 (io), 11 RC3 (io), 12 RC4 (io), 13 RC5 (io), 14 RC6 (io), 15 RC7 (io), 16 VSS (power) "Ground reference.", 17 VDD (power) "Positive supply.", 18 RB0 (io), 19 RB1 (io), 20 RB2 (io), 21 RB3 (io), 22 RB4 (io), 23 RB5 (io), 24 RB6/ICSPCLK (io), 25 RB7/ICSPDAT (io), 26 RE3/~{MCLR}/VPP (in), 27 RA0 (io), 28 RA1 (io), 29 EP

## PIC16F1782-I/SO
designator U?
8-Bit Advanced Analog Flash Microcontroller, 32 MHz, 24 I/O, -40 to 85 degC, 28-pin SOIC (SO28), Tube; Manufacturer: Microchip; PartNumber: PIC16F1782-I/SO; # of A/D Channels: 11; Digital Communication: 1 -A/E/USART, 1 -MSSP(SPI/I2C); EEPROM Data Memory (bytes): 256; I/O Pins: 24; Internal Oscillator: 32 MHz, 31 kHz; Max. CPU Speed MHz: 32; Operation Voltage Range: 2.3V - 5.5V; Program Memory KBytes: 3.5; Program Memory KWords: 2; Timers: 2 - 8-bit, 1 - 16-bit; DatasheetVersion: Rev. D; PackageVersion: C04-052C, 12/2012; PackageReference: SOIC-SO28; PackageDescription: 28-Lead Plastic Small Outline, 17.9 x 7.5 mm Body, 1.27 mm Pitch; Supplier 1: Digi-Key; Supplier Part Number 1: PIC16F1782-I/SO-ND; Supplier 2: Farnell; Supplier Part Number 2: 2097782; Supplier 3: Newark; Supplier Part Number 3: 76T2324; Supplier 4: Mouser; Supplier Part Number 4: 579-PIC16F1782-I/SO; Memory Type: Flash; Packing: TUBE; RAM: 256; RoHS: TRUE; Mounting Technology: Surface Mount; ComponentLink1Description: Datasheet; ComponentLink1URL: http://ww1.microchip.com/downloads/en/DeviceDoc/41579D.pdf; ComponentLink2Description: Package Specification; ComponentLink2URL: http://www.microchip.com/stellent/groups/techpub_sg/documents/packagingspec/en012702.pdf; ComponentLink3Description: URL Link1; ComponentLink3URL: Product URL:http://www.microchip.com/datasheet/PIC16F1782
footprint MCHP-SOIC-SO28_N (SOIC, 28-Leads, Body 17.9x7.5mm, Pitch 1.27mm, IPC Medium Density)
footprint MCHP-SOIC-SO28_L (SOIC, 28-Leads, Body 17.9x7.5mm, Pitch 1.27mm, IPC High Density)
footprint MCHP-SOIC-SO28_M (SOIC, 28-Leads, Body 17.9x7.5mm, Pitch 1.27mm, IPC Low Density)
pins: 1 RE3/~{MCLR}/VPP (in), 2 RA0 (io), 3 RA1 (io), 4 RA2 (io), 5 RA3 (io), 6 RA4 (io), 7 RA5 (io), 8 VSS (power) "Ground reference.", 9 RA7 (io), 10 RA6 (io), 11 RC0 (io), 12 RC1 (io), 13 RC2 (io), 14 RC3 (io), 15 RC4 (io), 16 RC5 (io), 17 RC6 (io), 18 RC7 (io), 19 VSS (power) "Ground reference.", 20 VDD (power) "Positive supply.", 21 RB0 (io), 22 RB1 (io), 23 RB2 (io), 24 RB3 (io), 25 RB4 (io), 26 RB5 (io), 27 RB6/ICSPCLK (io), 28 RB7/ICSPDAT (io)

## PIC16F1782-I/SP
designator U?
8-Bit Advanced Analog Flash Microcontroller, 32 MHz, 24 I/O, -40 to 85 degC, 28-pin SPDIP (SP28), Tube; Manufacturer: Microchip; PartNumber: PIC16F1782-I/SP; # of A/D Channels: 11; Digital Communication: 1 -A/E/USART, 1 -MSSP(SPI/I2C); EEPROM Data Memory (bytes): 256; I/O Pins: 24; Internal Oscillator: 32 MHz, 31 kHz; Max. CPU Speed MHz: 32; Operation Voltage Range: 2.3V - 5.5V; Program Memory KBytes: 3.5; Program Memory KWords: 2; Timers: 2 - 8-bit, 1 - 16-bit; DatasheetVersion: Rev. D; PackageVersion: C04-070B, 12/2012; PackageReference: SPDIP-SP28; PackageDescription: 28-Lead Plastic Dual In-Line, 34.86 x 6.79 mm Body, 2.54 mm Pitch; Supplier 1: Digi-Key; Supplier Part Number 1: PIC16F1782-I/SP-ND; Supplier 2: Farnell; Supplier Part Number 2: 2097784; Supplier 3: Newark; Supplier Part Number 3: 76T2325; Supplier 4: Mouser; Supplier Part Number 4: 579-PIC16F1782-I/SP; Memory Type: Flash; Packing: TUBE; RAM: 256; RoHS: TRUE; Mounting Technology: Through Hole; ComponentLink1Description: Datasheet; ComponentLink1URL: http://ww1.microchip.com/downloads/en/DeviceDoc/41579D.pdf; ComponentLink2Description: Package Specification; ComponentLink2URL: http://www.microchip.com/stellent/groups/techpub_sg/documents/packagingspec/en012702.pdf; ComponentLink3Description: URL Link1; ComponentLink3URL: Product URL:http://www.microchip.com/datasheet/PIC16F1782
footprint MCHP-SPDIP-SP28 (DIP, 28-Leads, Body 34.86x6.79mm, Pitch 2.54mm)
pins: 1 RE3/~{MCLR}/VPP (in), 2 RA0 (io), 3 RA1 (io), 4 RA2 (io), 5 RA3 (io), 6 RA4 (io), 7 RA5 (io), 8 VSS (power) "Ground reference.", 9 RA7 (io), 10 RA6 (io), 11 RC0 (io), 12 RC1 (io), 13 RC2 (io), 14 RC3 (io), 15 RC4 (io), 16 RC5 (io), 17 RC6 (io), 18 RC7 (io), 19 VSS (power) "Ground reference.", 20 VDD (power) "Positive supply.", 21 RB0 (io), 22 RB1 (io), 23 RB2 (io), 24 RB3 (io), 25 RB4 (io), 26 RB5 (io), 27 RB6/ICSPCLK (io), 28 RB7/ICSPDAT (io)

## PIC16F1782-I/SS
designator U?
8-Bit Advanced Analog Flash Microcontroller, 32 MHz, 24 I/O, -40 to 85 degC, 28-pin SSOP (SS28), Tube; Manufacturer: Microchip; PartNumber: PIC16F1782-I/SS; # of A/D Channels: 11; Digital Communication: 1 -A/E/USART, 1 -MSSP(SPI/I2C); EEPROM Data Memory (bytes): 256; I/O Pins: 24; Internal Oscillator: 32 MHz, 31 kHz; Max. CPU Speed MHz: 32; Operation Voltage Range: 2.3V - 5.5V; Program Memory KBytes: 3.5; Program Memory KWords: 2; Timers: 2 - 8-bit, 1 - 16-bit; DatasheetVersion: Rev. D; PackageVersion: C04-073B, 12/2012; PackageReference: SSOP-SS28; PackageDescription: 28-Lead Plastic Shrink Small Outline, 10.2 x 5.3 mm Body, 0.65 mm Pitch; Supplier 1: Digi-Key; Supplier Part Number 1: PIC16F1782-I/SS-ND; Supplier 2: Farnell; Supplier Part Number 2: 2097785; Supplier 3: Farnell; Supplier Part Number 3: 2096418; Supplier 4: Newark; Supplier Part Number 4: 76T2326; Supplier 5: Mouser; Supplier Part Number 5: 579-PIC16F1782-I/SS; Memory Type: Flash; Packing: TUBE; RAM: 256; RoHS: TRUE; Mounting Technology: Surface Mount; ComponentLink1Description: Datasheet; ComponentLink1URL: http://ww1.microchip.com/downloads/en/DeviceDoc/41579D.pdf; ComponentLink2Description: Package Specification; ComponentLink2URL: http://www.microchip.com/stellent/groups/techpub_sg/documents/packagingspec/en012702.pdf; ComponentLink3Description: URL Link1; ComponentLink3URL: Product URL:http://www.microchip.com/datasheet/PIC16F1782
footprint MCHP-SSOP-SS28_N (SOP, 28-Leads, Body 10.2x5.3mm, Pitch 0.65mm, IPC Medium Density)
footprint MCHP-SSOP-SS28_L (SOP, 28-Leads, Body 10.2x5.3mm, Pitch 0.65mm, IPC High Density)
footprint MCHP-SSOP-SS28_M (SOP, 28-Leads, Body 10.2x5.3mm, Pitch 0.65mm, IPC Low Density)
pins: 1 RE3/~{MCLR}/VPP (in), 2 RA0 (io), 3 RA1 (io), 4 RA2 (io), 5 RA3 (io), 6 RA4 (io), 7 RA5 (io), 8 VSS (power) "Ground reference.", 9 RA7 (io), 10 RA6 (io), 11 RC0 (io), 12 RC1 (io), 13 RC2 (io), 14 RC3 (io), 15 RC4 (io), 16 RC5 (io), 17 RC6 (io), 18 RC7 (io), 19 VSS (power) "Ground reference.", 20 VDD (power) "Positive supply.", 21 RB0 (io), 22 RB1 (io), 23 RB2 (io), 24 RB3 (io), 25 RB4 (io), 26 RB5 (io), 27 RB6/ICSPCLK (io), 28 RB7/ICSPDAT (io)

## PIC16F1783-E/ML
designator U?
8-Bit Advanced Analog Flash Microcontroller, 32 MHz, 24 I/O, -40 to 125 degC, 28-pin QFN (ML28), Tube; Manufacturer: Microchip; PartNumber: PIC16F1783-E/ML; # of A/D Channels: 11; Digital Communication: 1-A/E/USART, 1-MSSP(SPI/I2C); EEPROM Data Memory (bytes): 256; I/O Pins: 24; Internal Oscillator: 32 MHz, 31 kHz; Max. CPU Speed MHz: 32; Operation Voltage Range: 2.3V - 5.5V; Program Memory KBytes: 7; Program Memory KWords: 4; RAM: 512; Timers: 4 - 8-bit, 1 - 16-bit; DatasheetVersion: Rev. D; PackageVersion: C04-105C, 12/2012; PackageReference: QFN-ML28; PackageDescription: 28-Lead Plastic Quad Flat, 6 x 6 mm Body, 0.65 mm Pitch; Supplier 1: Digi-Key; Supplier Part Number 1: PIC16F1783-E/ML-ND; Supplier 2: Newark; Supplier Part Number 2: 76T2331; Supplier 3: Mouser; Supplier Part Number 3: 579-PIC16F1783-E/ML; Memory Type: Flash; Packing: TUBE; RoHS: TRUE; Mounting Technology: Surface Mount; ComponentLink1Description: Datasheet; ComponentLink1URL: http://ww1.microchip.com/downloads/en/DeviceDoc/41579D.pdf; ComponentLink2Description: Package Specification; ComponentLink2URL: http://www.microchip.com/stellent/groups/techpub_sg/documents/packagingspec/en012702.pdf; ComponentLink3Description: URL Link1; ComponentLink3URL: Product URL:http://www.microchip.com/datasheet/PIC16F1783
footprint MCHP-QFN-ML28_N (QFN, 28-Leads, Body 6x6mm, Pitch 0.65mm, Thermal Pad 3.7x3.7mm, IPC Medium Density)
footprint MCHP-QFN-ML28_L (QFN, 28-Leads, Body 6x6mm, Pitch 0.65mm, Thermal Pad 3.7x3.7mm, IPC High Density)
footprint MCHP-QFN-ML28_M (QFN, 28-Leads, Body 6x6mm, Pitch 0.65mm, Thermal Pad 3.7x3.7mm, IPC Low Density)
pins: 1 RA2 (io), 2 RA3 (io), 3 RA4 (io), 4 RA5 (io), 5 VSS (power) "Ground reference.", 6 RA7 (io), 7 RA6 (io), 8 RC0 (io), 9 RC1 (io), 10 RC2 (io), 11 RC3 (io), 12 RC4 (io), 13 RC5 (io), 14 RC6 (io), 15 RC7 (io), 16 VSS (power) "Ground reference.", 17 VDD (power) "Positive supply.", 18 RB0 (io), 19 RB1 (io), 20 RB2 (io), 21 RB3 (io), 22 RB4 (io), 23 RB5 (io), 24 RB6/ICSPCLK (io), 25 RB7/ICSPDAT (io), 26 RE3/~{MCLR}/VPP (in), 27 RA0 (io), 28 RA1 (io), 29 EP

## PIC16F1783-E/MV
designator U?
8-Bit Advanced Analog Flash Microcontroller, 32 MHz, 24 I/O, -40 to 125 degC, 28-pin UQFN (MV28), Tube; Manufacturer: Microchip; PartNumber: PIC16F1783-E/MV; # of A/D Channels: 11; Digital Communication: 1-A/E/USART, 1-MSSP(SPI/I2C); EEPROM Data Memory (bytes): 256; I/O Pins: 24; Internal Oscillator: 32 MHz, 31 kHz; Max. CPU Speed MHz: 32; Operation Voltage Range: 2.3V - 5.5V; Program Memory KBytes: 7; Program Memory KWords: 4; RAM: 512; Timers: 4 - 8-bit, 1 - 16-bit; DatasheetVersion: Rev. D; PackageVersion: C04-152A, 04/2013; PackageReference: UQFN-MV28; PackageDescription: 28-Lead Plastic Ultra Thin Quad Flat, Body 4 x 4 mm, Pitch 0.4 mm; Supplier 1: Digi-Key; Supplier Part Number 1: PIC16F1783-E/MV-ND; Supplier 2: Newark; Supplier Part Number 2: 76T2332; Supplier 3: Mouser; Supplier Part Number 3: 579-PIC16F1783-E/MV; Memory Type: Flash; Packing: TUBE; RoHS: TRUE; Mounting Technology: Surface Mount; ComponentLink1Description: Datasheet; ComponentLink1URL: http://ww1.microchip.com/downloads/en/DeviceDoc/41579D.pdf; ComponentLink2Description: Package Specification; ComponentLink2URL: http://www.microchip.com/stellent/groups/techpub_sg/documents/packagingspec/en012702.pdf; ComponentLink3Description: URL Link1; ComponentLink3URL: Product URL:http://www.microchip.com/datasheet/PIC16F1783
footprint MCHP-UQFN-MV28_N (QFN, 28-Leads, Body 4x4mm, Pitch 0.4mm, Thermal Pad 2.65x2.65mm, IPC Medium Density)
footprint MCHP-UQFN-MV28_L (QFN, 28-Leads, Body 4x4mm, Pitch 0.4mm, Thermal Pad 2.65x2.65mm, IPC High Density)
footprint MCHP-UQFN-MV28_M (QFN, 28-Leads, Body 4x4mm, Pitch 0.4mm, Thermal Pad 2.65x2.65mm, IPC Low Density)
pins: 1 RA2 (io), 2 RA3 (io), 3 RA4 (io), 4 RA5 (io), 5 VSS (power) "Ground reference.", 6 RA7 (io), 7 RA6 (io), 8 RC0 (io), 9 RC1 (io), 10 RC2 (io), 11 RC3 (io), 12 RC4 (io), 13 RC5 (io), 14 RC6 (io), 15 RC7 (io), 16 VSS (power) "Ground reference.", 17 VDD (power) "Positive supply.", 18 RB0 (io), 19 RB1 (io), 20 RB2 (io), 21 RB3 (io), 22 RB4 (io), 23 RB5 (io), 24 RB6/ICSPCLK (io), 25 RB7/ICSPDAT (io), 26 RE3/~{MCLR}/VPP (in), 27 RA0 (io), 28 RA1 (io), 29 EP